# EAGLE library part MK66FX1M0VLQ18 (library MK66FX1M0VLQ18)
NXP - MK66FX1M0VLQ18 - MPU, ARM CORTEX-M4F, 180MHZ, LQFP-144 <https://componentsearchengine.com/Images/1/MK66FX1M0VLQ18.jpg> Source: Datasheet <https://cache.nxp.com/docs/en/data-sheet/K66P144M180SF5V2.pdf>
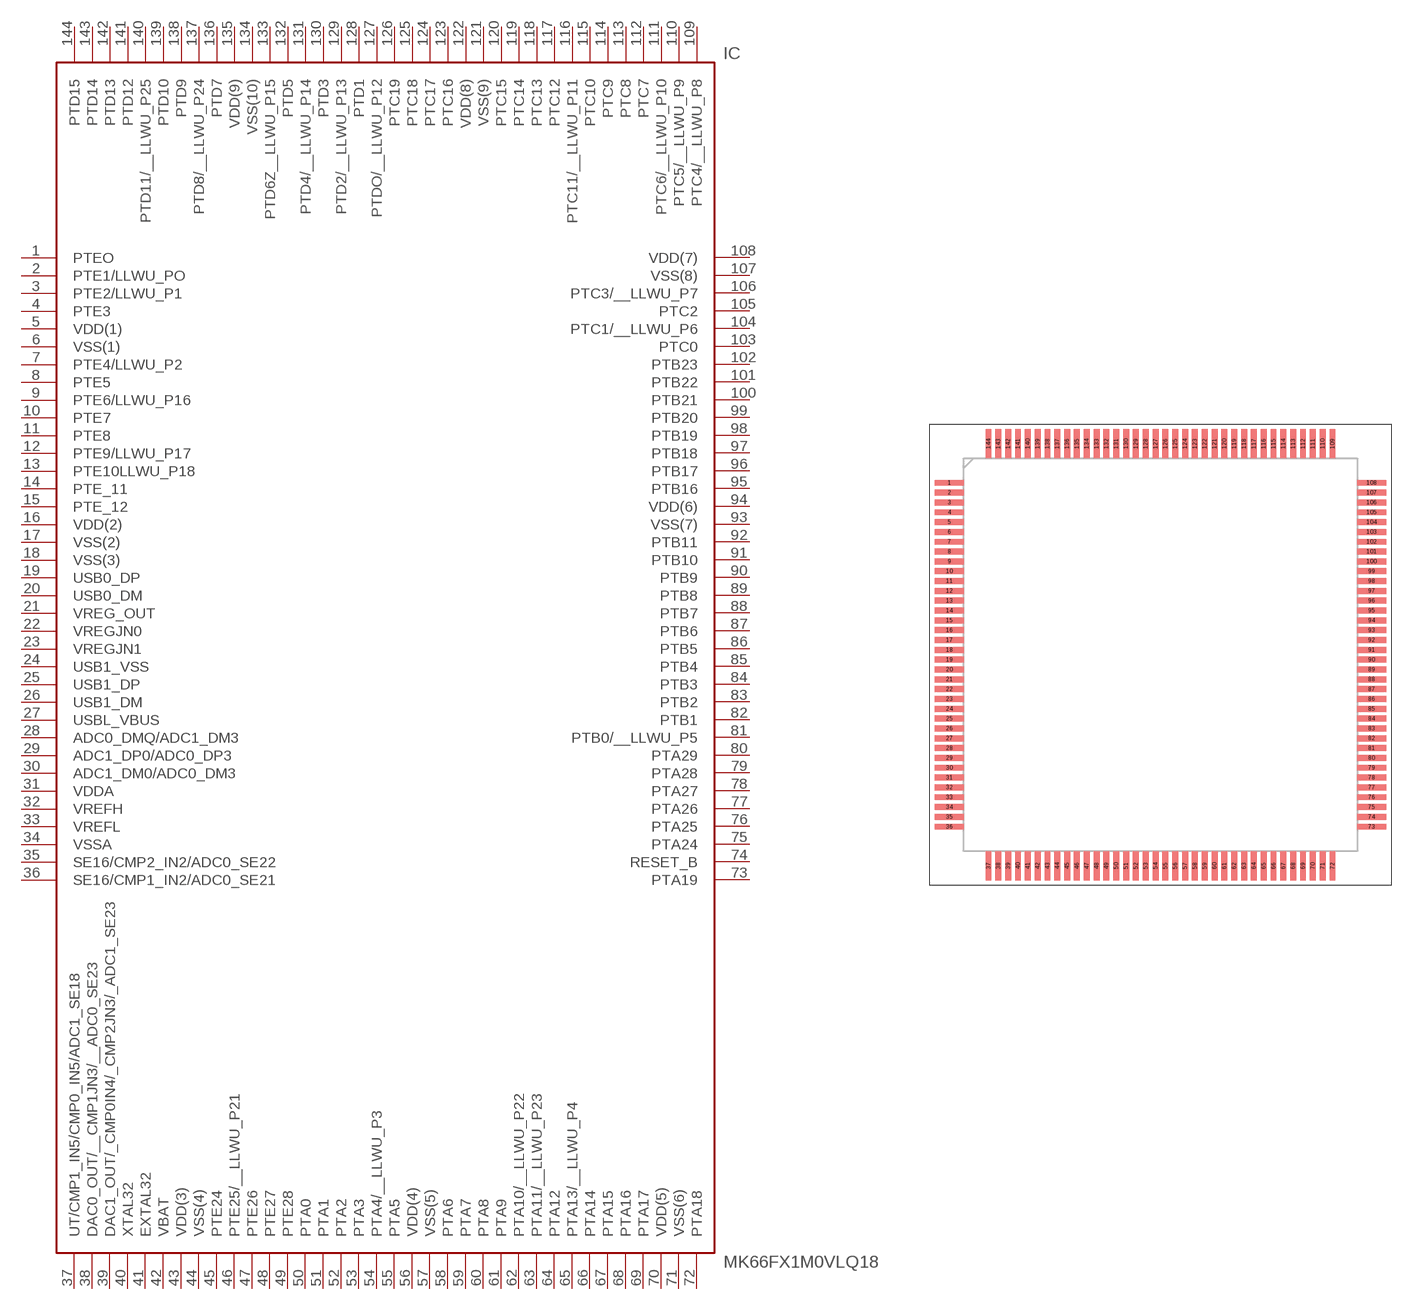
[diagram p0: symbol with the pads of QFP50P2200X2200X160-144N; footprint QFP50P2200X2200X160-144N]

Designator prefix IC

## MK66FX1M0VLQ18 (Description: NXP - MK66FX1M0VLQ18 - MPU, ARM CORTEX-M4F, 180MHZ, LQFP-144; Height: 1.6mm; Manufacturer_Name: Nexperia; Manufacturer_Part_Number: MK66FX1M0VLQ18; Supplier_Name: RS)  [QFP50P2200X2200X160-144N]
1  PTEO  pas
2  PTE1/LLWU_PO  pas
3  PTE2/LLWU_P1  pas
4  PTE3  pas
5  VDD(1)  pas
6  VSS(1)  pas
7  PTE4/LLWU_P2  pas
8  PTE5  pas
9  PTE6/LLWU_P16  pas
10  PTE7  pas
11  PTE8  pas
12  PTE9/LLWU_P17  pas
13  PTE10LLWU_P18  pas
14  PTE_11  pas
15  PTE_12  pas
16  VDD(2)  pas
17  VSS(2)  pas
18  VSS(3)  pas
19  USB0_DP  pas
20  USB0_DM  pas
21  VREG_OUT  pas
22  VREGJN0  pas
23  VREGJN1  pas
24  USB1_VSS  pas
25  USB1_DP  pas
26  USB1_DM  pas
27  USBL_VBUS  pas
28  ADC0_DMQ/ADC1_DM3  pas
29  ADC1_DP0/ADC0_DP3  pas
30  ADC1_DM0/ADC0_DM3  pas
31  VDDA  pas
32  VREFH  pas
33  VREFL  pas
34  VSSA  pas
35  SE16/CMP2_IN2/ADC0_SE22  pas
36  SE16/CMP1_IN2/ADC0_SE21  pas
37  UT/CMP1_IN5/CMP0_IN5/ADC1_SE18  pas
38  DAC0_OUT/__CMP1JN3/__ADC0_SE23  pas
39  DAC1_OUT/_CMP0IN4/_CMP2JN3/_ADC1_SE23  pas
40  XTAL32  pas
41  EXTAL32  pas
42  VBAT  pas
43  VDD(3)  pas
44  VSS(4)  pas
45  PTE24  pas
46  PTE25/__LLWU_P21  pas
47  PTE26  pas
48  PTE27  pas
49  PTE28  pas
50  PTA0  pas
51  PTA1  pas
52  PTA2  pas
53  PTA3  pas
54  PTA4/__LLWU_P3  pas
55  PTA5  pas
56  VDD(4)  pas
57  VSS(5)  pas
58  PTA6  pas
59  PTA7  pas
60  PTA8  pas
61  PTA9  pas
62  PTA10/__LLWU_P22  pas
63  PTA11/__LLWU_P23  pas
64  PTA12  pas
65  PTA13/__LLWU_P4  pas
66  PTA14  pas
67  PTA15  pas
68  PTA16  pas
69  PTA17  pas
70  VDD(5)  pas
71  VSS(6)  pas
72  PTA18  pas
73  PTA19  pas
74  RESET_B  pas
75  PTA24  pas
76  PTA25  pas
77  PTA26  pas
78  PTA27  pas
79  PTA28  pas
80  PTA29  pas
81  PTB0/__LLWU_P5  pas
82  PTB1  pas
83  PTB2  pas
84  PTB3  pas
85  PTB4  pas
86  PTB5  pas
87  PTB6  pas
88  PTB7  pas
89  PTB8  pas
90  PTB9  pas
91  PTB10  pas
92  PTB11  pas
93  VSS(7)  pas
94  VDD(6)  pas
95  PTB16  pas
96  PTB17  pas
97  PTB18  pas
98  PTB19  pas
99  PTB20  pas
100  PTB21  pas
101  PTB22  pas
102  PTB23  pas
103  PTC0  pas
104  PTC1/__LLWU_P6  pas
105  PTC2  pas
106  PTC3/__LLWU_P7  pas
107  VSS(8)  pas
108  VDD(7)  pas
109  PTC4/__LLWU_P8  pas
110  PTC5/__LLWU_P9  pas
111  PTC6/__LLWU_P10  pas
112  PTC7  pas
113  PTC8  pas
114  PTC9  pas
115  PTC10  pas
116  PTC11/__LLWU_P11  pas
117  PTC12  pas
118  PTC13  pas
119  PTC14  pas
120  PTC15  pas
121  VSS(9)  pas
122  VDD(8)  pas
123  PTC16  pas
124  PTC17  pas
125  PTC18  pas
126  PTC19  pas
127  PTDO/__LLWU_P12  pas
128  PTD1  pas
129  PTD2/__LLWU_P13  pas
130  PTD3  pas
131  PTD4/__LLWU_P14  pas
132  PTD5  pas
133  PTD6Z__LLWU_P15  pas
134  VSS(10)  pas
135  VDD(9)  pas
136  PTD7  pas
137  PTD8/__LLWU_P24  pas
138  PTD9  pas
139  PTD10  pas
140  PTD11/__LLWU_P25  pas
141  PTD12  pas
142  PTD13  pas
143  PTD14  pas
144  PTD15  pas

## Footprint QFP50P2200X2200X160-144N (pad centres in mm)
SOT486-2
smd 1.475 x 0.3: 1 -10.738,8.75; 2 -10.738,8.25; 3 -10.738,7.75; 4 -10.738,7.25; 5 -10.738,6.75; 6 -10.738,6.25; 7 -10.738,5.75; 8 -10.738,5.25; 9 -10.738,4.75; 10 -10.738,4.25; 11 -10.738,3.75; 12 -10.738,3.25; 13 -10.738,2.75; 14 -10.738,2.25; 15 -10.738,1.75; 16 -10.738,1.25; 17 -10.738,0.75; 18 -10.738,0.25; 19 -10.738,-0.25; 20 -10.738,-0.75; 21 -10.738,-1.25; 22 -10.738,-1.75; 23 -10.738,-2.25; 24 -10.738,-2.75; 25 -10.738,-3.25; 26 -10.738,-3.75; 27 -10.738,-4.25; 28 -10.738,-4.75; 29 -10.738,-5.25; 30 -10.738,-5.75; 31 -10.738,-6.25; 32 -10.738,-6.75; 33 -10.738,-7.25; 34 -10.738,-7.75; 35 -10.738,-8.25; 36 -10.738,-8.75; 73 10.738,-8.75; 74 10.738,-8.25; 75 10.738,-7.75; 76 10.738,-7.25; 77 10.738,-6.75; 78 10.738,-6.25; 79 10.738,-5.75; 80 10.738,-5.25; 81 10.738,-4.75; 82 10.738,-4.25; 83 10.738,-3.75; 84 10.738,-3.25; 85 10.738,-2.75; 86 10.738,-2.25; 87 10.738,-1.75; 88 10.738,-1.25; 89 10.738,-0.75; 90 10.738,-0.25; 91 10.738,0.25; 92 10.738,0.75; 93 10.738,1.25; 94 10.738,1.75; 95 10.738,2.25; 96 10.738,2.75; 97 10.738,3.25; 98 10.738,3.75; 99 10.738,4.25; 100 10.738,4.75; 101 10.738,5.25; 102 10.738,5.75; 103 10.738,6.25; 104 10.738,6.75; 105 10.738,7.25; 106 10.738,7.75; 107 10.738,8.25; 108 10.738,8.75
smd 0.3 x 1.475: 37 -8.75,-10.738; 38 -8.25,-10.738; 39 -7.75,-10.738; 40 -7.25,-10.738; 41 -6.75,-10.738; 42 -6.25,-10.738; 43 -5.75,-10.738; 44 -5.25,-10.738; 45 -4.75,-10.738; 46 -4.25,-10.738; 47 -3.75,-10.738; 48 -3.25,-10.738; 49 -2.75,-10.738; 50 -2.25,-10.738; 51 -1.75,-10.738; 52 -1.25,-10.738; 53 -0.75,-10.738; 54 -0.25,-10.738; 55 0.25,-10.738; 56 0.75,-10.738; 57 1.25,-10.738; 58 1.75,-10.738; 59 2.25,-10.738; 60 2.75,-10.738; 61 3.25,-10.738; 62 3.75,-10.738; 63 4.25,-10.738; 64 4.75,-10.738; 65 5.25,-10.738; 66 5.75,-10.738; 67 6.25,-10.738; 68 6.75,-10.738; 69 7.25,-10.738; 70 7.75,-10.738; 71 8.25,-10.738; 72 8.75,-10.738; 109 8.75,10.738; 110 8.25,10.738; 111 7.75,10.738; 112 7.25,10.738; 113 6.75,10.738; 114 6.25,10.738; 115 5.75,10.738; 116 5.25,10.738; 117 4.75,10.738; 118 4.25,10.738; 119 3.75,10.738; 120 3.25,10.738; 121 2.75,10.738; 122 2.25,10.738; 123 1.75,10.738; 124 1.25,10.738; 125 0.75,10.738; 126 0.25,10.738; 127 -0.25,10.738; 128 -0.75,10.738; 129 -1.25,10.738; 130 -1.75,10.738; 131 -2.25,10.738; 132 -2.75,10.738; 133 -3.25,10.738; 134 -3.75,10.738; 135 -4.25,10.738; 136 -4.75,10.738; 137 -5.25,10.738; 138 -5.75,10.738; 139 -6.25,10.738; 140 -6.75,10.738; 141 -7.25,10.738; 142 -7.75,10.738; 143 -8.25,10.738; 144 -8.75,10.738